# Altium footprint library 拨码开关1.27mm.PcbLib: 1 footprints
Each footprint in its own frame and in the unit in brackets; x right, y up, seen from the top. Pads: shape width x height; smd on the part's side, far side on the other; paste and mask are expansions set on the pad; w line width, h text height; cw(c..) or ccw(c..) is an arc to the next point about the centre after c.
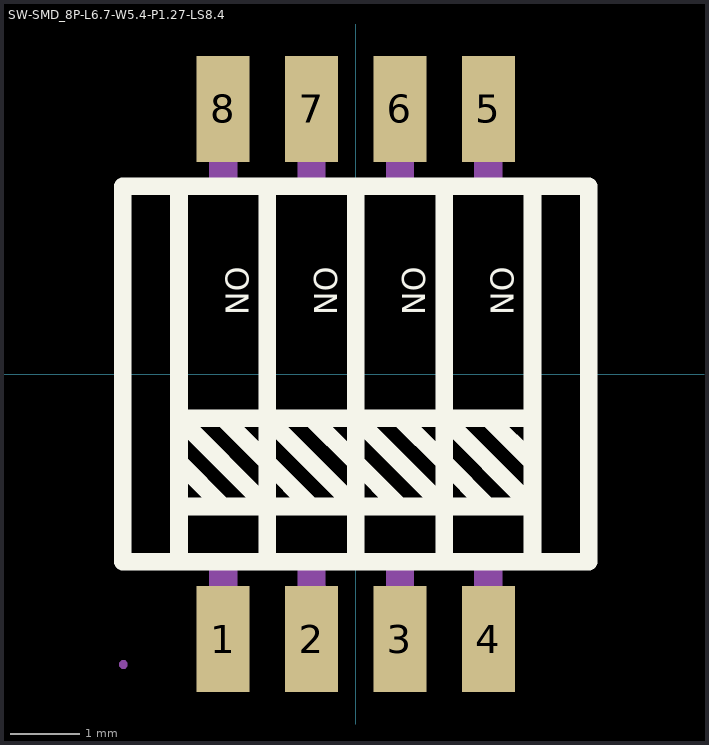
[diagram p0: the footprint, top view; thin cyan lines are the x and y axes]

## SW-SMD_8P-L6.7-W5.4-P1.27-LS8.4 [mil]
pads (8):
  rect 30x60 smd: 1(-75,-150) 2(-25,-150) 3(25,-150) 4(75,-150) 5(75,150) 6(25,150) 7(-25,150) 8(-75,150)
Top Overlay:
  lines w10: -100,-100 -100,100 ; -100,-75 -50,-75 ; -100,-50 -75,-75 ; -75,-25 -50,-50 -25,-75 ; -25,-25 0,-50 25,-75 ; 25,-25 50,-50 75,-75 ; 75,-25 100,-50 ; 100,-100 100,100 ; 100,-25 50,-25 ; -50,-100 -50,100 ; -50,-100 -50,100 ; -50,-100 -50,100 ; -50,-100 -50,100 ; -50,-75 -100,-25 -50,-25 ; -50,-75 0,-75 ; -50,-25 0,-75 ; -50,-25 0,-25 ; 0,-100 0,100 ; 0,-100 0,100 ; 0,-100 0,100 ; 0,-75 50,-75 ; 0,-25 50,-25 ; 0,-25 50,-75 ; 50,-75 100,-75 50,-25 ; -131.88,-106.3 -131.88,106.3 131.89,106.3 131.89,-106.3 -131.88,-106.3 ; 50,-100 50,100 50,-100
  text "ON" at 76.44,60.54 h12.98
  text "ON" at 26.44,60.54 h12.98
  text "ON" at -23.55,60.54 h12.98
  text "ON" at -73.55,60.54 h12.98
Mechanical 6:
  region: -80.62,-145.02 -80.58,-142.59 -76.25,-142.59 -76.25,-121.17 -77.01,-120.41 -79.95,-120.61 -76.76,-117.41 -73.81,-117.46 -73.81,-142.55 -69.21,-142.63 -69.18,-145
  region: -30.7,-122.2 -30.7,-120.97 -29.75,-118.69 -28.01,-116.94 -25.73,-116 -24.5,-116 -22.5,-116 -21.32,-116 -19.15,-116.9 -17.49,-118.56 -16.6,-120.73 -16.6,-121.9 -16.6,-123.2 -26.8,-140.4 -14.55,-140.32 -14.45,-143.52 -31.2,-143.52 -31.25,-140.42 -19.45,-122.92 -19.47,-122.46 -19.65,-121.56 -20,-120.7 -20.51,-119.94 -20.82,-119.59 -20.85,-119.57 -20.91,-119.52 -21.05,-119.42 -21.2,-119.36 -21.37,-119.33 -21.45,-119.32 -26.45,-119.32 -26.78,-119.36 -27.39,-119.61 -27.86,-120.08 -28.11,-120.69 -28.15,-121.02 -28.15,-121.87
Mechanical 15:
  region: -129.13,-164.37 -129.13,-163.39 -130.51,-162.01 -132.47,-162.01 -133.85,-163.39 -133.85,-164.37 -133.85,-165.35 -132.47,-166.73 -130.51,-166.73 -129.13,-165.35 -129.13,-164.37
  region: 82.88,132.09 82.88,105.91 67.13,105.91 67.13,132.09
  region: 82.88,164.37 82.88,131.69 67.13,131.69 67.13,164.37
  region: 82.88,-105.91 82.88,-132.09 67.13,-132.09 67.13,-105.91
  region: 82.88,-131.69 82.88,-164.37 67.13,-164.37 67.13,-131.69
  region: -67.12,-105.91 -67.12,-132.09 -82.87,-132.09 -82.87,-105.91
  region: -67.12,-131.69 -67.12,-164.37 -82.87,-164.37 -82.87,-131.69
  region: -67.12,132.09 -67.12,105.91 -82.87,105.91 -82.87,132.09
  region: -67.12,164.37 -67.12,131.69 -82.87,131.69 -82.87,164.37
  region: -17.12,132.09 -17.12,105.91 -32.87,105.91 -32.87,132.09
  region: -17.12,164.37 -17.12,131.69 -32.87,131.69 -32.87,164.37
  region: -17.12,-105.91 -17.12,-132.09 -32.87,-132.09 -32.87,-105.91
  region: -17.12,-131.69 -17.12,-164.37 -32.87,-164.37 -32.87,-131.69
  region: 32.88,-105.91 32.88,-132.09 17.13,-132.09 17.13,-105.91
  region: 32.88,-131.69 32.88,-164.37 17.13,-164.37 17.13,-131.69
  region: 32.88,132.09 32.88,105.91 17.13,105.91 17.13,132.09
  region: 32.88,164.37 32.88,131.69 17.13,131.69 17.13,164.37
  lines w2: -131.49,-106.3 131.5,-106.3 131.5,106.3 -131.49,106.3 -131.49,-106.3